# Altium footprint library Switch.PcbLib: 47 footprints (part 2 of 3)
Each footprint in its own frame and in the unit in brackets; x right, y up, seen from the top. Pads: shape width x height; smd on the part's side, far side on the other; paste and mask are expansions set on the pad; w line width, h text height; cw(c..) or ccw(c..) is an arc to the next point about the centre after c.
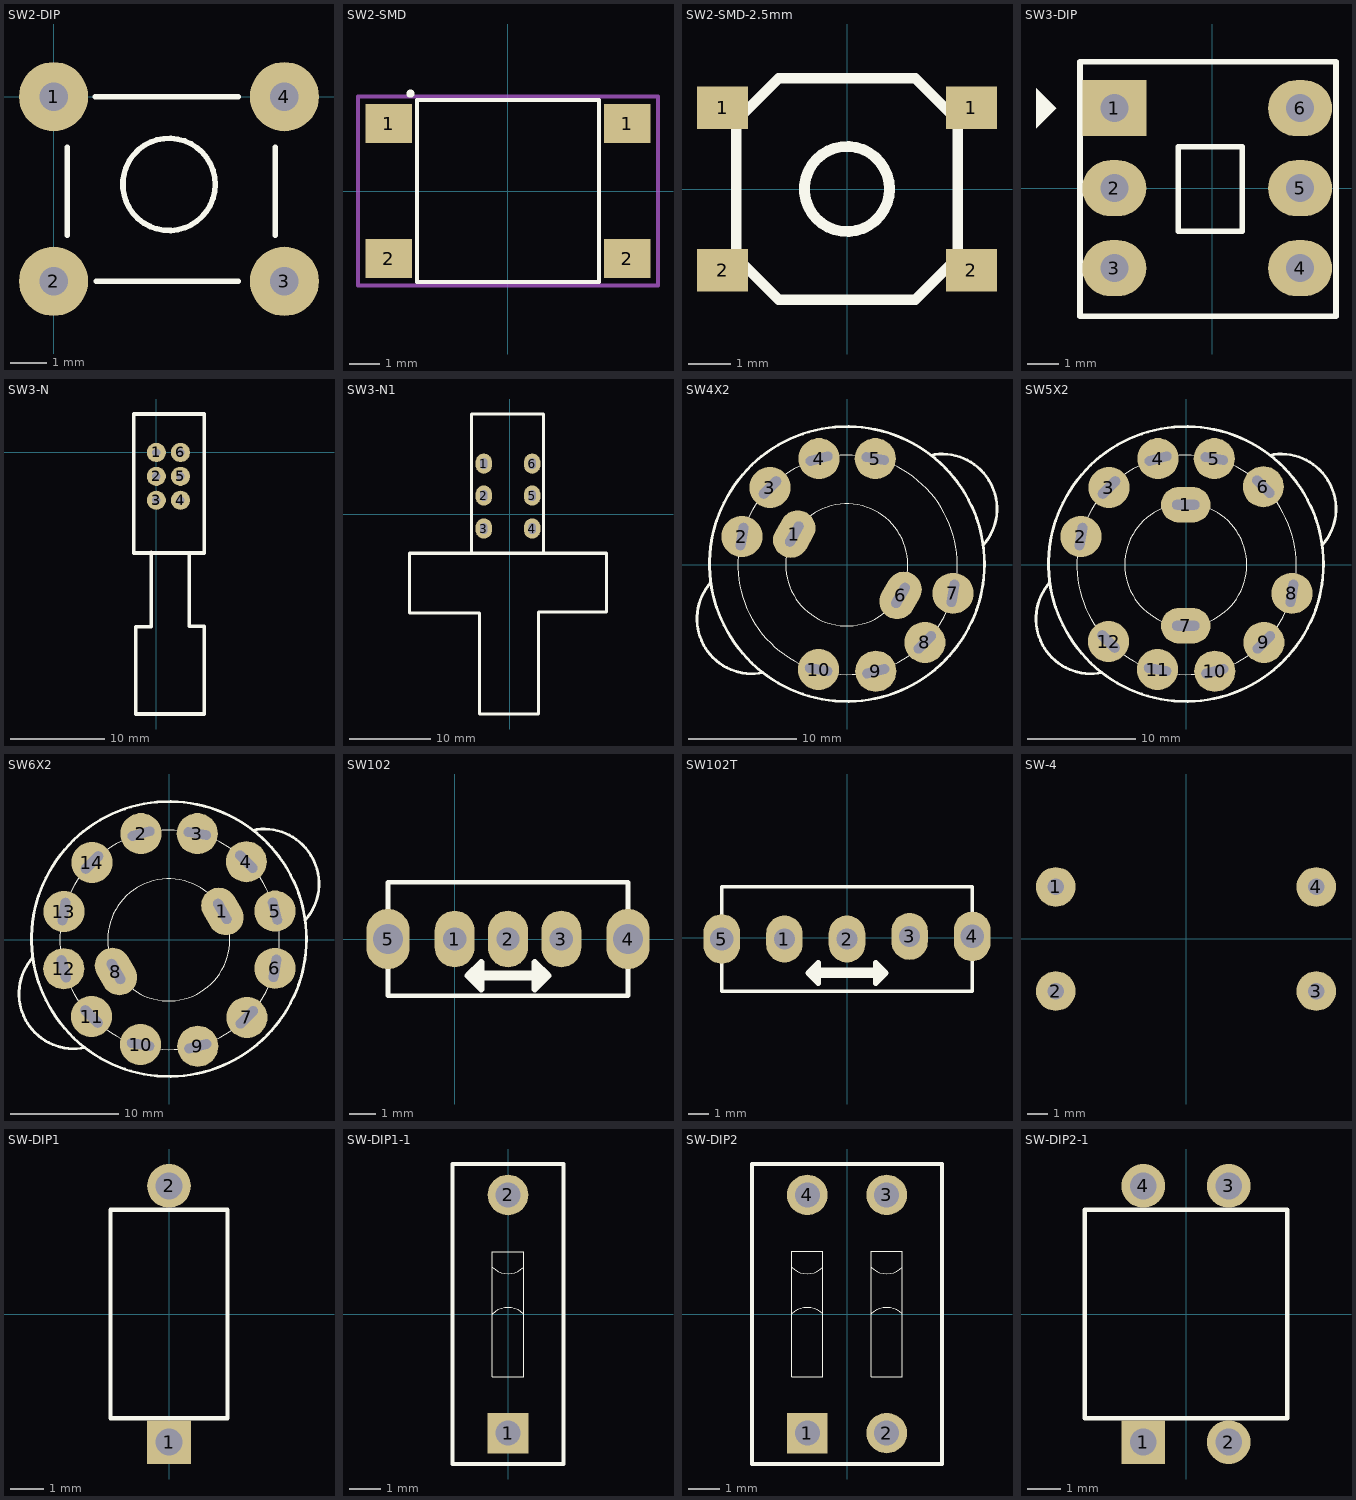
[diagram p1: the footprints below, top view; thin cyan lines are the x and y axes]

## SW2-DIP [mil] "SW button 4pin, 250 x250 mil"
height 100
pads (4):
  round 75 hole 31: 1(0,0) 2(0,-200) 3(250,-200) 4(250,0)
Top Overlay:
  circle w6: c125,-95 r50
  lines w6: 15,-150 15,-55 ; 45,0 200,0 ; 46,-200 200,-200 ; 240,-150 240,-55
  lines w7: 239,-215 240,-214
3D body "SW3dPS-.STEP": height 275.59, standoff -137.8, extent -35.51,-220 275.51,24.09

## SW2-SMD [mm] "6*6mm vertical type, SMD, height 5.0mm, black actuator, 160gf, T&R"
height 5
pads (4):
  rect 1.55x1.3 smd: 1(-3.975,2.25) 1(3.975,2.25) 2(-3.975,-2.25) 2(3.975,-2.25)
Top Overlay:
  circle w0.2: c-3.25,3.25 r0.036
  lines w0.127: -3.036,-3.036 -3.036,3.036 3.036,3.036 3.036,-3.036 -3.036,-3.036
Mechanical 15:
  lines w0.127: -5,-3.15 5,-3.15 5,3.15 -5,3.15 -5,-3.15
3D body "4301x20508x6.stp": height 4.99, standoff -0.01, extent -4.5,-3.1 4.5,3.1

## SW2-SMD-2.5mm [mm] "SMD 5.2x5.2mm tactile switch push-button"
height 5
pads (4):
  rect 1.2x1 smd: 1(-2.921,1.905) 1(2.921,1.905) 2(-2.921,-1.905) 2(2.921,-1.905)
Top Overlay:
  circle w0.254: c0,0 r1
  lines w0.254: -2.6,-1.6 -1.6,-2.6 1.6,-2.6 2.6,-1.6 2.6,1.6 1.6,2.6 -1.6,2.6 -2.6,1.6 -2.6,-1.6
3D body "tact_switch_2.5mm.stp": height 2.5, standoff 0, extent -3.232,-2.584 3.168,2.616

## SW3-DIP [mil] "SW DTDP - 6Pin 260x300x300 mil"
pads (6):
  rect 80x70 hole 35: 1(-122.13,100)
  oval 80x70 hole 35: 2(-122.13,0) 3(-122.13,-100) 4(110.16,-100) 5(110.16,0) 6(110.16,100)
Top Overlay:
  region: -220,125 -195,100 -220,75
  lines w7: -165,-160 155,-160 155,158 -165,158 -165,-160 ; -42,-54 38,-54 38,52 -42,52 -42,-54
3D body "User Library-PSM1-0-0.STEP": height 532.1, standoff -137.19, extent -163.48,-159.48 151.48,155.49

## SW3-N [mil]
pads (6):
  round 80 hole 35: 1(0,0) 2(0,-100) 3(0,-200) 4(101,-200) 5(101,-100) 6(101,0)
Top Overlay:
  lines w15: -21,-419 -21,-730 -87,-730 -87,-1095 201,-1095 201,-728 137,-728 137,-421 142,-421 ; -95,-421 -95,161 200,161 200,-421 -95,-421
3D body "User Library-DPDT Push Switch-1.STEP": height 394.31, standoff -156.88, extent -95,-1096.66 200.28,161.56

## SW3-N1 [mm]
pads (6):
  oval 2x2.5 hole 0.9 slot 1.3 at 90 deg: 1(-3.175,6.223) 2(-3.175,2.286) 3(-3.175,-1.778) 4(2.794,-1.778) 5(2.794,2.286) 6(2.794,6.223)
Top Overlay:
  lines w0.381: -12.319,-5.08 -12.319,-12.192 -3.683,-12.192 -3.683,-24.638 3.556,-24.638 3.556,-12.065 11.938,-12.065 11.938,-4.826 1.321,-4.826 ; -4.699,-4.826 -4.699,12.344 4.191,12.344 4.191,-4.826 -4.699,-4.826
  lines w0.4: -12.319,-5.08 -12.319,-4.826 -4.699,-4.826
3D body "User Library-Digikey_EG1010-ND.step": height 10.8, standoff -3.2, extent -12.192,-24.674 11.808,12.482

## SW4X2 [mil] "Switch 4x2"
height 500
pads (10):
  oval 180x130 hole 35 slot 100 at 60 deg rot 60: 1(-193.57,112.51) 6(193.7,-111.07)
  round 150 hole 35 slot 100 at 80 deg: 2(-384.48,103.48) 7(384.48,-103.48)
  round 150 hole 35 slot 100 at 45 deg: 3(-282.26,282.26) 8(282.26,-282.26)
  round 150 hole 35 slot 100 at 15 deg: 4(-103.48,387.48) 9(103.48,-387.48)
  round 150 hole 35 slot 100 at 170 deg: 5(101.54,387.46) 10(-105.2,-381.27)
Top Overlay:
  circle w1: c-2.46,0.46 r222.5
  circle w1: c0.54,0.46 r400
  circle w10: c-1.46,3.46 r501
  lines w10: -498,-63.94 ccw(c-348.29,-196.56) -307.65,-392.38 ; 303.52,399.93 cw(c345.18,204.32) 495.11,71.95

## SW5X2 [mil] "Switch 5x2"
height 500
pads (12):
  oval 180x130 hole 35 slot 100 at 0 deg: 1(-2.46,219.46) 7(-2.46,-221.54)
  round 150 hole 35 slot 100 at 80 deg: 2(-384.48,103.48) 8(384.48,-103.48)
  round 150 hole 35 slot 100 at 45 deg: 3(-282.26,282.26) 9(282.26,-282.26)
  round 150 hole 35 slot 100 at 15 deg: 4(-103.48,387.48) 10(103.48,-387.48)
  round 150 hole 35 slot 100 at 170 deg: 5(101.54,387.46) 11(-105.2,-381.27)
  round 150 hole 35 slot 100 at 135 deg: 6(280.32,285.24) 12(-283.98,-279.05)
Top Overlay:
  circle w10: c-1.46,3.46 r501
  circle w1: c0.54,0.46 r400
  circle w1: c-2.46,0.46 r222.5
  lines w10: -498,-63.94 ccw(c-348.29,-196.56) -307.65,-392.38 ; 303.52,399.93 cw(c345.18,204.32) 495.11,71.95

## SW6X2 [mil] "Switch 6x2"
height 500
pads (14):
  oval 180x130 hole 35 slot 100 at 120 deg rot 120: 1(193,104) 8(-195,-115)
  round 150 hole 35 slot 100 at 15 deg: 2(-103.48,387.48) 9(103.48,-387.48)
  round 150 hole 35 slot 100 at 170 deg: 3(101.54,387.46) 10(-105.2,-381.27)
  round 150 hole 35 slot 100 at 135 deg: 4(280.32,285.24) 11(-283.98,-279.05)
  round 150 hole 35 slot 100 at 105 deg: 5(385,105) 12(-385,-105)
  round 150 hole 35 slot 100 at 80 deg: 6(384.48,-103.48) 13(-384.48,103.48)
  round 150 hole 35 slot 100 at 45 deg: 7(282.26,-282.26) 14(-282.26,282.26)
Top Overlay:
  circle w10: c-1.46,3.46 r501
  circle w1: c0.54,0.46 r400
  circle w1: c-2.46,0.46 r222.5
  lines w10: -498,-63.94 ccw(c-348.29,-196.56) -307.65,-392.38 ; 303.52,399.93 cw(c345.18,204.32) 495.11,71.95

## SW102 [mil] "Switch 102 On Board nho"
height 2
pads (5):
  oval 60x85 hole 35: 1(0,0) 2(80,0) 3(160,0)
  oval 65x90 hole 45: 4(260,0) 5(-100,0)
Top Overlay:
  lines w7: -100,-45 -100,-85 260,-85 260,-45 ; -100,45 -100,85 260,85 260,45
  lines w10: 20,-55 40,-35 40,-75 20,-55 ; 120,-75 120,-35 140,-55 120,-75
  lines w15: 30,-55 130,-55

## SW102T [mil] "Switch 102 On Board To"
height 2
pads (5):
  oval 70x90 hole 40: 1(-120,-2.5) 2(0,-2.5) 3(120,2.5)
  oval 70x95 hole 45: 4(240,2.5) 5(-240,-2.5)
Top Overlay:
  lines w7: -240,-50 -240,-102.5 240,-102.5 240,-45 ; -240,45 -240,97.5 240,97.5 240,45
  lines w10: -75,-67.5 -55,-87.5 -55,-47.5 -75,-67.5 ; 55,-87.5 75,-67.5 55,-47.5 55,-87.5
  lines w20: -65,-67.5 65,-67.5

## SW-4 [mil]
pads (4):
  round 75 hole 31: 1(-246.07,98.42) 2(-246.07,-98.43) 3(246.06,-98.43) 4(246.06,98.42)
3D body "User Library-tact switch 12x12x8mm.step": height 334.65, standoff -137.8, extent -273.01,-236.22 273.01,236.22

## SW-DIP1 [mm]
height 3.9
pads (2):
  rect 1.3x1.3 hole 0.8: 1(0,-3.81)
  round 1.3 hole 0.8: 2(0,3.81)
Top Overlay:
  lines w0.127: -1.74,-3.1 1.74,-3.1 1.74,3.1 -1.74,3.1 -1.74,-3.1
3D body "418127270901.stp": height 3.95, standoff -3.65, extent -1.74,-3.985 1.74,3.885

## SW-DIP1-1 [mm] "01p, 2.54mm Pitch, Horizontal, Box Type, THT, flat Actuator, red, without Tape, Tube"
height 5.2
pads (2):
  rect 1.3x1.3 hole 0.8: 1(0,-3.81)
  round 1.3 hole 0.8: 2(0,3.81)
Top Overlay:
  lines w0.025: -0.5,0 cw(c0,-0.5) 0.5,0 ; -0.5,1.5 ccw(c0,2) 0.5,1.5 ; -0.5,-2 0.5,-2 0.5,2 -0.5,2 -0.5,-2
  lines w0.127: -1.77,-4.8 -1.77,4.8 ; -1.77,-4.8 1.77,-4.8 ; -1.77,-4.8 -1.77,4.8 ; -1.77,-4.8 1.77,-4.8 ; -1.77,4.8 1.77,4.8 ; -1.77,4.8 1.77,4.8 ; 1.77,-4.8 1.77,4.8 ; 1.77,-4.8 1.77,4.8
3D body "418117170901.stp": height 5.4, standoff -3.8, extent -1.77,-4.8 1.77,4.8

## SW-DIP2 [mm] "02p, 2.54mm Pitch, Horizontal, Box Type, THT, flat Actuator, red, without Tape, Tube"
height 5.2
pads (4):
  rect 1.3x1.3 hole 0.8: 1(-1.27,-3.81)
  round 1.3 hole 0.8: 2(1.27,-3.81) 3(1.27,3.81) 4(-1.27,3.81)
Top Overlay:
  lines w0.025: -1.77,0 cw(c-1.27,-0.5) -0.77,0 ; -1.77,1.5 ccw(c-1.27,2) -0.77,1.5 ; 0.77,0 cw(c1.27,-0.5) 1.77,0 ; 0.77,1.5 ccw(c1.27,2) 1.77,1.5 ; -1.77,-2 -1.77,2 -0.77,2 -0.77,-2 -1.77,-2 ; 0.77,-2 0.77,2 1.77,2 1.77,-2 0.77,-2
  lines w0.127: -3.04,-4.8 3.04,-4.8 ; -3.04,-4.8 -3.04,4.8 ; -3.04,-4.8 3.04,-4.8 ; -3.04,-4.8 -3.04,4.8 ; -3.04,4.8 3.04,4.8 ; -3.04,4.8 3.04,4.8 ; 3.04,-4.8 3.04,4.8 ; 3.04,-4.8 3.04,4.8
3D body "418117170902.stp": height 5.4, standoff -3.8, extent -3.04,-4.7 3.04,4.9

## SW-DIP2-1 [mm]
height 3.9
pads (4):
  rect 1.3x1.3 hole 0.8: 1(-1.27,-3.81)
  round 1.3 hole 0.8: 2(1.27,-3.81) 3(1.27,3.81) 4(-1.27,3.81)
Top Overlay:
  lines w0.127: -3.01,-3.1 -3.01,3.1 3.01,3.1 3.01,-3.1 -3.01,-3.1
3D body "418127270902.stp": height 3.95, standoff -3.65, extent -3.01,-3.985 3.01,3.885